# EAGLE library part 4003EP100 (library XILINX)
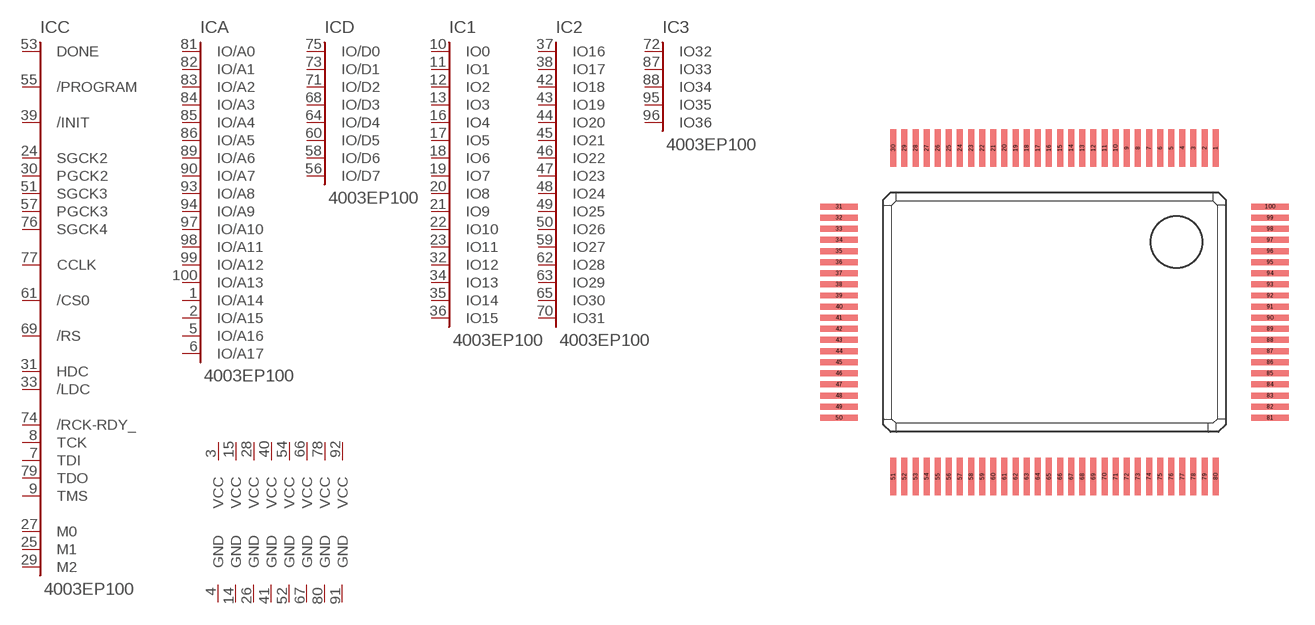
[diagram p14: symbol with the pads of PQ100; footprint PQ100]

Designator prefix IC; gates C=4003-C84 A=XC4-A17 D=XC4-D 1=XC4-IO16 V1=VCC V2=VCC V3=VCC V4=VCC V5=VCC V6=VCC V7=VCC V8=VCC G1=GND G2=GND G3=GND G4=GND G5=GND G6=GND G7=GND G8=GND 2=XC4-IO32 3=XC4-IO36

## 4003EP100  [PQ100]
1  A:IO/A14
2  A:IO/A15
3  V1:VCC  pwr
4  G1:GND  pwr
5  A:IO/A16
6  A:IO/A17
7  C:TDI
8  C:TCK
9  C:TMS
10  1:IO0
11  1:IO1
12  1:IO2
13  1:IO3
14  G2:GND  pwr
15  V2:VCC  pwr
16  1:IO4
17  1:IO5
18  1:IO6
19  1:IO7
20  1:IO8
21  1:IO9
22  1:IO10
23  1:IO11
24  C:SGCK2
25  C:M1  out
26  G3:GND  pwr
27  C:M0  in
28  V3:VCC  pwr
29  C:M2  in
30  C:PGCK2
31  C:HDC
32  1:IO12
33  C:/LDC
34  1:IO13
35  1:IO14
36  1:IO15
37  2:IO16
38  2:IO17
39  C:/INIT
40  V4:VCC  pwr
41  G4:GND  pwr
42  2:IO18
43  2:IO19
44  2:IO20
45  2:IO21
46  2:IO22
47  2:IO23
48  2:IO24
49  2:IO25
50  2:IO26
51  C:SGCK3
52  G5:GND  pwr
53  C:DONE
54  V5:VCC  pwr
55  C:/PROGRAM
56  D:IO/D7
57  C:PGCK3
58  D:IO/D6
59  2:IO27
60  D:IO/D5
61  C:/CS0
62  2:IO28
63  2:IO29
64  D:IO/D4
65  2:IO30
66  V6:VCC  pwr
67  G6:GND  pwr
68  D:IO/D3
69  C:/RS
70  2:IO31
71  D:IO/D2
72  3:IO32
73  D:IO/D1
74  C:/RCK-RDY_
75  D:IO/D0
76  C:SGCK4
77  C:CCLK
78  V7:VCC  pwr
79  C:TDO
80  G7:GND  pwr
81  A:IO/A0
82  A:IO/A1
83  A:IO/A2
84  A:IO/A3
85  A:IO/A4
86  A:IO/A5
87  3:IO33
88  3:IO34
89  A:IO/A6
90  A:IO/A7
91  G8:GND  pwr
92  V8:VCC  pwr
93  A:IO/A8
94  A:IO/A9
95  3:IO35
96  3:IO36
97  A:IO/A10
98  A:IO/A11
99  A:IO/A12
100  A:IO/A13

## Footprint PQ100 (pad centres in mm)
smd 0.35 x 2.2: 1 9.425,9.6; 2 8.775,9.6; 3 8.125,9.6; 4 7.475,9.6; 5 6.825,9.6; 6 6.175,9.6; 7 5.525,9.6; 8 4.875,9.6; 9 4.225,9.6; 10 3.575,9.6; 11 2.925,9.6; 12 2.275,9.6; 13 1.625,9.6; 14 0.975,9.6; 15 0.325,9.6; 16 -0.325,9.6; 17 -0.975,9.6; 18 -1.625,9.6; 19 -2.275,9.6; 20 -2.925,9.6; 21 -3.575,9.6; 22 -4.225,9.6; 23 -4.875,9.6; 24 -5.525,9.6; 25 -6.175,9.6; 26 -6.825,9.6; 27 -7.475,9.6; 28 -8.125,9.6; 29 -8.775,9.6; 30 -9.425,9.6; 51 -9.425,-9.6; 52 -8.775,-9.6; 53 -8.125,-9.6; 54 -7.475,-9.6; 55 -6.825,-9.6; 56 -6.175,-9.6; 57 -5.525,-9.6; 58 -4.875,-9.6; 59 -4.225,-9.6; 60 -3.575,-9.6; 61 -2.925,-9.6; 62 -2.275,-9.6; 63 -1.625,-9.6; 64 -0.975,-9.6; 65 -0.325,-9.6; 66 0.325,-9.6; 67 0.975,-9.6; 68 1.625,-9.6; 69 2.275,-9.6; 70 2.925,-9.6; 71 3.575,-9.6; 72 4.225,-9.6; 73 4.875,-9.6; 74 5.525,-9.6; 75 6.175,-9.6; 76 6.825,-9.6; 77 7.475,-9.6; 78 8.125,-9.6; 79 8.775,-9.6; 80 9.425,-9.6
smd 2.2 x 0.35: 31 -12.6,6.175; 32 -12.6,5.525; 33 -12.6,4.875; 34 -12.6,4.225; 35 -12.6,3.575; 36 -12.6,2.925; 37 -12.6,2.275; 38 -12.6,1.625; 39 -12.6,0.975; 40 -12.6,0.325; 41 -12.6,-0.325; 42 -12.6,-0.975; 43 -12.6,-1.625; 44 -12.6,-2.275; 45 -12.6,-2.925; 46 -12.6,-3.575; 47 -12.6,-4.225; 48 -12.6,-4.875; 49 -12.6,-5.525; 50 -12.6,-6.175; 81 12.6,-6.175; 82 12.6,-5.525; 83 12.6,-4.875; 84 12.6,-4.225; 85 12.6,-3.575; 86 12.6,-2.925; 87 12.6,-2.275; 88 12.6,-1.625; 89 12.6,-0.975; 90 12.6,-0.325; 91 12.6,0.325; 92 12.6,0.975; 93 12.6,1.625; 94 12.6,2.275; 95 12.6,2.925; 96 12.6,3.575; 97 12.6,4.225; 98 12.6,4.875; 99 12.6,5.525; 100 12.6,6.175